# Altium schematic symbol library Capacitors.SchLib: 38 symbols
Pins are listed as number, name and electrical type; pins without a type are passive.

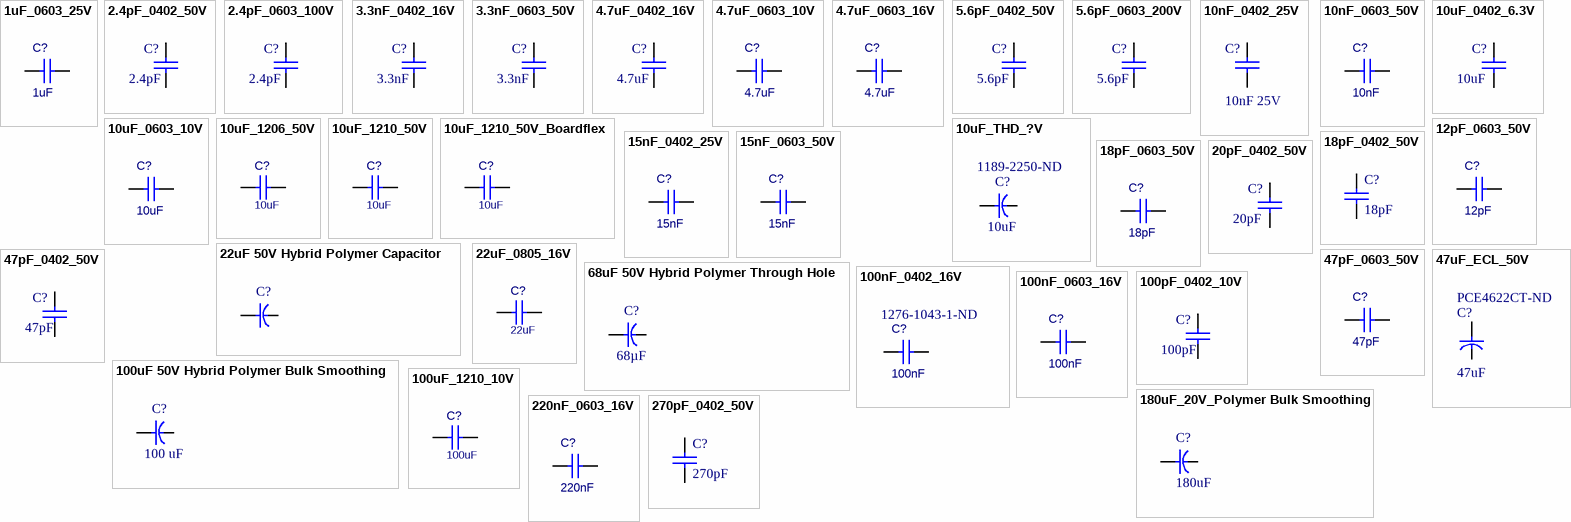
[diagram p0: symbols 1uF_0603_25V to 270pF_0402_50V]

## 1uF_0603_25V
designator C?, comment 1uF
CAP 1µF 25V ±10% X7R 0603; Manufacturer: Samsung; Manufacturer Part Number: CL10B105KA8NNNC; TZOA PN: 211-00001; Supplier 1: Digi-Key; Stock 1: 622934; Pricing 1: 1=0.1, 10=0.069, 100=0.0307, 500=0.0219, 1000=0.0172 (USD); Capacitance: 1 µF; Case Size/Dimension: 0603; Dielectric: X7R; Tolerance (%): ±10 %; Rated Voltage: 25 V; ComponentLink1URL: https://datasheet.ciiva.com/16449/cl10b105ka8nnnc-16449544.pdf; ComponentLink1Description: https://datasheet.ciiva.com/16449/cl10b105ka8nnnc-16449544.pdf; ComponentLink2URL: https://datasheet.ciiva.com/15195/getdatasheetpartid-359554-15195726.pdf; ComponentLink2Description: https://datasheet.ciiva.com/15195/getdatasheetpartid-359554-15195726.pdf; Supplier Part Number 1: 1276-1184-1-ND
footprint C1608[0603] small (3DModel=0805.ogl)
footprint C1608[0603] (3DModel=0805.ogl)
pins: 1, 2

## 2.4pF_0402_50V
designator C?, comment 2.4pF
Cap,2.4pF,50V,C0G/NP0,RF,0402; Supplier 1: Digi-Key; Supplier Part Number 1: 399-16068-1-ND
footprint C1005[0402] (Capacitor 1005(0402))
pins: 1, 2

## 2.4pF_0603_100V
designator C?, comment 2.4pF
Cap,2.4pF,100V,C0G/NP0,RF,0603; Supplier 1: Digi-Key; Supplier Part Number 1: 490-6093-1-ND
footprint C1608[0603] (3DModel=0805.ogl)
pins: 1, 2

## 3.3nF_0402_16V
designator C?, comment 3.3nF
Cap,3.3nF,16V,10%,X7R,0402; Supplier 1: Digi-Key; Supplier Part Number 1: 311-3803-1-ND
footprint C1005[0402] (Capacitor 1005(0402))
pins: 1, 2

## 3.3nF_0603_50V
designator C?, comment 3.3nF
Cap,3.3nF,50V,10%,X7R,0603; Supplier 1: Digi-Key; Supplier Part Number 1: 1276-1758-1-ND
footprint C1608[0603] (3DModel=0805.ogl)
pins: 1, 2

## 4.7uF_0402_16V
designator C?, comment 4.7uF
Cap,4.7uF,16V,20%,X5R,0402; Supplier 1: Digi-Key; Supplier Part Number 1: 1276-6836-1-ND
footprint C1005[0402] (Capacitor 1005(0402))
pins: 1, 2

## 4.7uF_0603_10V
designator C?, comment 4.7uF
CAP 4.7uF 10V ±10% X5R 0603; Manufacturer: Murata Electronics North America; Manufacturer Part Number: GRM188R61A475KE15D; Capacitance: 4.7µF; TZOA PN: 211-00012; Supplier 1: Digi-Key; RoHS: RoHS Compliant; Category: Capacitors; Stock 1: 4010; Pricing 1: 1=0.18, 10=0.127, 50=0.073, 100=0.0604, 250=0.0508, 500=0.04254, 1000=0.03491 (CAD); Packaging: Cut Tape (CT); Tolerance: ±10%; Voltage - Rated: 10V; Temperature Coefficient: X5R; Mounting Type: Surface Mount, MLCC; Operating Temperature: -55°C ~ 85°C; Applications: General Purpose; Ratings: -; Package / Case: 0603 (1608 Metric); Size / Dimension: 0.063" L x 0.031" W (1.60mm x 0.80mm); Height - Seated (Max): -; Thickness (Max): 0.039" (1.00mm); Lead Spacing: -; Features: Derating Recommended; Lead Style: -; ComponentLink1URL: http://www.murata.com/~/media/webrenewal/support/library/catalog/products/capacitor/mlcc/c02e.pdf; ComponentLink1Description: http://www.murata.com/~/media/webrenewal/support/library/catalog/products/capacitor/mlcc/c02e.pdf; Supplier Part Number 1: 490-10477-1-ND
footprint C1608[0603] small (3DModel=0805.ogl)
footprint C1608[0603] (3DModel=0805.ogl)
pins: 1, 2

## 4.7uF_0603_16V
designator C?, comment 4.7uF
Cap,SMD,4.7uF,0603,16V,X5R,10%; Manufacturer: Murata; Manufacturer Part Number: GRM188R61C475KAAJD; TZOA PN: 211-00004; Voltage Rating DC: 16 VDC; Brand: Murata Electronics; Capacitance - nF: 4700 nF; Type: Voltage and Temperature Derating Recommended Product; Unit Weight: 0.000222 oz; Supplier 1: Digi-Key; Stock 1: 136795; Pricing 1: 1=0.35, 10=0.238, 100=0.1351, 500=0.0953, 1000=0.0834 (USD); Product Category: Multilayer Ceramic Capacitors MLCC - SMD/SMT; RoHS: True; Capacitance: 4.7 uF; Dielectric: X5R; Tolerance: 10 %; Case Code - in: 0603; Case Code - mm: 1608; Height: 0.8 mm; Maximum Operating Temperature: + 85 C; Minimum Operating Temperature: - 55 C; Product: General Type MLCCs; Series: GRM; Packaging: Reel; Length: 1.6 mm; Package / Case: 0603 (1608 metric); Factory Pack Quantity: 4000; Termination Style: SMD/SMT; Width: 0.8 mm; ComponentLink1URL: https://datasheet.ciiva.com/14813/595grm188r61c475kaaj23-14813668.pdf; ComponentLink1Description: https://datasheet.ciiva.com/14813/595grm188r61c475kaaj23-14813668.pdf; Supplier Part Number 1: 490-10481-1-ND
footprint C1608[0603] small (3DModel=0805.ogl)
footprint C1608[0603] (3DModel=0805.ogl)
pins: 1, 2

## 5.6pF_0402_50V
designator C?, comment 5.6pF
Cap,5.6pF,50V,C0G/NP0,RF,0402; Supplier 1: Digi-Key; Supplier Part Number 1: 399-17315-1-ND
footprint C1005[0402] (Capacitor 1005(0402))
pins: 1, 2

## 5.6pF_0603_200V
designator C?, comment 5.6pF
Cap,5.6pF,200V,C0G/NP0,RF,0603; Supplier 1: Digi-Key; Supplier Part Number 1: 399-7944-1-ND
footprint C1608[0603] (3DModel=0805.ogl)
pins: 1, 2

## 10nF_0402_25V
designator C?, comment 10nF 25V
Cap,SMD,10nF,25V,10%,X7R,0402; Supplier 1: Digi-Key; Supplier Part Number 1: 1276-1057-1-ND
footprint C1005[0402] (Capacitor 1005(0402))
pins: 1, 2

## 10nF_0603_50V
designator C?, comment 10nF
Cap,SMD,10nF,0603,50V,X7R,10%; Manufacturer: Sams; Manufacturer Part Number: CL10B103KB8NNNC; TZOA PN: 211-00005; Tolerance Minus: -10%; Tolerance Plus: +10%; Temperature Coefficient: ±15%; Supplier 1: Digi-Key; Stock 1: 632289; Pricing 1: 1=0.1, 10=0.017, 100=0.0076, 500=0.0054, 1000=0.0043 (USD); Capacitance: 10 nF; Voltage: 50 V; Package/Case: 0603; Mounting Type: Surface Mount; Dielectric: X7R; Tolerance: ±10%; Dimensions: 1.6 x 0.8 x 0.8mm; Length: 1.6mm; Depth: 0.8mm; Height: 0.8mm; Series: CL; Minimum Operating Temperature: -55°C; Maximum Operating Temperature: +125°C; Supplier Part Number 1: 1276-1009-1-ND
footprint C1608[0603] small (3DModel=0805.ogl)
footprint C1608[0603] (3DModel=0805.ogl)
pins: 1, 2

## 10uF_0402_6.3V
designator C?, comment 10uF
Cap,10uF,6.3V,20%,X6S,0402; Supplier 1: Digi-Key; Supplier Part Number 1: 490-13233-1-ND
footprint C1005[0402] (Capacitor 1005(0402))
pins: 1, 2

## 10uF_0603_10V
designator C?, comment 10uF
CAP 10µF 10V ±10% X5R 0603; Manufacturer: Murata; Manufacturer Part Number: GRM188R61A106KE69D; TZOA PN: 211-00006; Supplier 1: Digi-Key; Stock 1: 0; Pricing 1: 1=0.21, 10=0.146, 100=0.0688, 500=0.0482, 1000=0.0399, 2500=0.0372, 5000=0.034 (USD); Supplier Part Number 1: 490-10474-1-ND
footprint C1608[0603] small (3DModel=0805.ogl)
footprint C1608[0603] (3DModel=0805.ogl)
pins: 1, 2

## 10uF_1206_50V
designator C?, comment 10uF
Cap,SMD,10uF,1206,50V,X7R,10%; Manufacturer: Samsung Electro-Mechanics; Manufacturer Part Number: CL31B106KBHNNNE; TZOA PN: 211-00007; Supplier 1: Digi-Key; Supplier Part Number 1: 1276-6767-1-ND
footprint C3216[1206]
pins: 1, 2

## 10uF_1210_50V
designator C?, comment 10uF
Cap,SMD,10uF,1210,50V,X7R,10%; Manufacturer: Samsung; Manufacturer Part Number: CL32B106KBJNNWE; TZOA PN: 211-; Supplier 1: Digi-Key; Stock 1: 515330; Pricing 1: 1=0.66, 10=0.469, 100=0.3089, 500=0.2288 (USD); Capacitance: 10 uF; Case Size/Dimension: 1210; Dielectric: X7R; Rated Voltage: 50 V; Tolerance (%): 10 %; ComponentLink1URL: https://datasheet.ciiva.com/25721/cl32b106kbjnnwe-25721651.pdf; ComponentLink1Description: https://datasheet.ciiva.com/25721/cl32b106kbjnnwe-25721651.pdf; Supplier Part Number 1: 1276-3388-1-ND
footprint C3225[1210]_Tall
pins: 1, 2

## 10uF_1210_50V_Boardflex
designator C?, comment 10uF
Cap,SMD,10uF,1210,50V,X7R,10%, Boardflex; Manufacturer: Murata; Manufacturer Part Number: GRJ32ER71H106KE11L; Capacitance: 10µF; TZOA PN: 211-00007; Supplier 1: Digikey; Stock 1: 11340; Pricing 1: 1=0.9, 10=0.687, 100=0.4913, 500=0.3804 (USD); Category: Capacitors; Family: Ceramic Capacitors; Series: GRJ; Packaging: Tape &amp; Reel (TR); Tolerance: ±10%; Voltage - Rated: 50V; Temperature Coefficient: X7R; Mounting Type: Surface Mount, MLCC; Operating Temperature: -55°C ~ 125°C; Applications: Boardflex Sensitive; Ratings: -; Package / Case: 1210 (3225 Metric); Size / Dimension: 0.126" L x 0.098" W (3.20mm x 2.50mm); Height - Seated (Max): -; Thickness (Max): 0.110" (2.80mm); Lead Spacing: -; Features: Soft Termination; Lead Style: -; Supplier Part Number 1: 490-10961-1-ND
footprint C3225[1210]_Tall
pins: 1, 2

## 10uF_THD_?V
designator C?, comment 10uF  Supplier Part Number 1: 1189-2250-ND
Cap,10uF,?V,ECL,THD; Supplier 1: Digi-Key
footprint THD ML (0.45mm ID ML-Series)
pins: 1, 2

## 12pF_0603_50V
designator C?, comment 12pF
CAP 12pF 50V ±5% C0G/NP0 0603; Manufacturer: Samsung Electro-Mechanics America, Inc.; Manufacturer Part Number: CL10C120JB8NNNC; Temperature Coefficient: C0G, NP0; TZOA PN: 211-00003; Supplier 1: Digi-Key; RoHS: RoHS Compliant; Category: Capacitors; Stock 1: 17788; Pricing 1: 1=0.18, 10=0.131, 25=0.098, 50=0.0754, 100=0.0621, 500=0.04382, 1000=0.03596 (CAD); Packaging: Cut Tape (CT); Tolerance: ±5%; Voltage - Rated: 50V; Mounting Type: Surface Mount, MLCC; Operating Temperature: -55°C ~ 125°C; Applications: General Purpose; Ratings: -; Package / Case: 0603 (1608 Metric); Size / Dimension: 0.063" L x 0.031" W (1.60mm x 0.80mm); Height - Seated (Max): -; Thickness (Max): 0.035" (0.90mm); Lead Spacing: -; Features: -; Lead Style: -; ComponentLink1URL: http://www.samsungsem.com/kr/support/product-search/mlcc/CL10C180GB8NNNC.jsp; ComponentLink1Description: http://www.samsungsem.com/kr/support/product-search/mlcc/CL10C180GB8NNNC.jsp; Supplier Part Number 1: 1276-1254-1-ND; Capacitance: 12pF
footprint C1608[0603] (3DModel=0805.ogl)
footprint C1608[0603] small (3DModel=0805.ogl)
pins: 1, 2

## 15nF_0402_25V
designator C?, comment 15nF
Cap,SMD,15nF,0402,25V,X7R,10%; Manufacturer: Samsung Electro-Mechanics America, Inc.; Manufacturer Part Number: CL10B153KB8NNNC; Voltage - Rated: 50V; ID: 1634634; Capacitance: 10000pF; RoHS: RoHS Compliant; Category: Capacitors; Stock: 420353; Pricing: 1=0.14, 10=0.024, 25=0.0168, 50=0.013, 100=0.011, 500=0.00764, 1000=0.00597 (CAD); Packaging: Cut Tape (CT); Tolerance: ±10%; Temperature Coefficient: X7R; Mounting Type: Surface Mount, MLCC; Operating Temperature: -55°C ~ 125°C; Applications: General Purpose; Ratings: -; Package / Case: 0603 (1608 Metric); Size / Dimension: 0.063" L x 0.031" W (1.60mm x 0.80mm); Height - Seated (Max): -; Thickness (Max): 0.035" (0.90mm); Lead Spacing: -; Features: -; Lead Style: -; ComponentLink1URL: http://www.samsungsem.com/kr/support/product-search/mlcc/CL10B103KB8NNNC.jsp; ComponentLink1Description: http://www.samsungsem.com/kr/support/product-search/mlcc/CL10B103KB8NNNC.jsp; Package Quantity: 4000; ComponentLink2URL: https://www.arrow.com/en/products/cl10b103kb8nnnc/samsung-electro-mechanics/; ComponentLink2Description: https://www.arrow.com/en/products/cl10b103kb8nnnc/samsung-electro-mechanics/; Supplier 1: Digi-Key; Supplier Part Number 1: 1276-1523-1-ND
footprint C1005[0402] (Capacitor 1005(0402))
pins: 1, 2

## 15nF_0603_50V
designator C?, comment 15nF
Cap,SMD,15nF,0603,50V,X7R,10%; Manufacturer: Samsung Electro-Mechanics America, Inc.; Manufacturer Part Number: CL10B153KB8NNNC; ID: 1634634; Capacitance: 10000pF; Supplier 1: Digi-Key; Supplier Part Number 1: 1276-1277-1-ND; RoHS: RoHS Compliant; Category: Capacitors; Stock: 420353; Pricing: 1=0.14, 10=0.024, 25=0.0168, 50=0.013, 100=0.011, 500=0.00764, 1000=0.00597 (CAD); Packaging: Cut Tape (CT); Tolerance: ±10%; Voltage - Rated: 50V; Temperature Coefficient: X7R; Mounting Type: Surface Mount, MLCC; Operating Temperature: -55°C ~ 125°C; Applications: General Purpose; Ratings: -; Package / Case: 0603 (1608 Metric); Size / Dimension: 0.063" L x 0.031" W (1.60mm x 0.80mm); Height - Seated (Max): -; Thickness (Max): 0.035" (0.90mm); Lead Spacing: -; Features: -; Lead Style: -; ComponentLink1URL: http://www.samsungsem.com/kr/support/product-search/mlcc/CL10B103KB8NNNC.jsp; ComponentLink1Description: http://www.samsungsem.com/kr/support/product-search/mlcc/CL10B103KB8NNNC.jsp; Supplier 2: Arrow; Supplier Part Number 2: Kjzk4c3iaGHKgu91OSCceftLzGdEy-eHvzd4Lw8V1m4ZVywxIBNyoAQstvnyfZZ0; Package Quantity: 4000; ComponentLink2URL: https://www.arrow.com/en/products/cl10b103kb8nnnc/samsung-electro-mechanics/; ComponentLink2Description: https://www.arrow.com/en/products/cl10b103kb8nnnc/samsung-electro-mechanics/
footprint C1608[0603] (3DModel=0805.ogl)
footprint C1608[0603] small (3DModel=0805.ogl)
pins: 1, 2

## 18pF_0402_50V
designator C?, comment 18pF
Cap,18pF,50V,5%,C0G/NP0,0402; Supplier 1: Digi-Key; Supplier Part Number 1: 311-1415-1-ND
footprint C1005[0402] (Capacitor 1005(0402))
pins: 1, 2

## 18pF_0603_50V
designator C?, comment 18pF
CAP CER 18pF 50V ±5% C0G/NP0 0603; Manufacturer: Samsung; Manufacturer Part Number: CL10C180JB8NNNC; Dielectric: C0G; TZOA PN: 211-00009; Supplier 1: Digikey; Stock 1: 322612; Pricing 1: 1=0.1, 10=0.03, 100=0.0135, 500=0.0096, 1000=0.0076 (USD); Capacitance: 18 pF; Case Size/Dimension: 0603; Tolerance (%): ±5 %; Rated Voltage: 50 V; ComponentLink1URL: https://datasheet.ciiva.com/26838/getdatasheetpartid-660083-26838496.pdf; ComponentLink1Description: https://datasheet.ciiva.com/26838/getdatasheetpartid-660083-26838496.pdf; ComponentLink2URL: https://datasheet.ciiva.com/25709/cl10c180jb8nnnc-25709670.pdf; ComponentLink2Description: https://datasheet.ciiva.com/25709/cl10c180jb8nnnc-25709670.pdf; ComponentLink3URL: https://datasheet.ciiva.com/26310/mlcc-catalogdownload2013-eng-26310310.pdf; ComponentLink3Description: https://datasheet.ciiva.com/26310/mlcc-catalogdownload2013-eng-26310310.pdf; ComponentLink4URL: https://datasheet.ciiva.com/29198/457219-da-01-en-vs-kondensator-0603-29198763.pdf; ComponentLink4Description: https://datasheet.ciiva.com/29198/457219-da-01-en-vs-kondensator-0603-29198763.pdf; Supplier Part Number 1: 1276-1089-1-ND
footprint C1608[0603] (3DModel=0805.ogl)
footprint C1608[0603] small (3DModel=0805.ogl)
pins: 1, 2

## 20pF_0402_50V
designator C?, comment 20pF
Cap,20pF,50V,5%,C0G/NP0,0402; Supplier 1: Digi-Key; Supplier Part Number 1: 1276-2119-1-ND
footprint C1005[0402] (Capacitor 1005(0402))
pins: 1, 2

## 22uF 50V Hybrid Polymer Capacitor
designator C?  (value not drawn)
Manufacturer: United Chemi-Con; Manufacturer Part Number: HHXB500ARA220MF61G; Featured Product: Hybrid Polymer Aluminum Electrolytic Capacitors HXB Series; Capacitance: 22µF; Tolerance: ±20%; Voltage Rating: 50V; ESR (Equivalent Series Resistance): 80 mOhm; Lifetime @ Temp.: 5000 Hrs @ 105°C; Polarization: Polar; Ripple Current: 1.1A; Surface Mount Land Size: 0.260" L x 0.260" W (6.60mm x 6.60mm); Online Catalog: HXB Series; Other Names: 565-4188-1; Supplier 1: Digikey; Stock 1: 1047; Pricing 1: 1=1.32, 10=1.043, 100=0.7825, 500=0.5912 (USD); Standard Package: 1; Category: Capacitors; Family: Aluminum - Polymer Capacitors; Series: Automotive, AEC-Q200, HXB, Hybrid; Packaging: Cut Tape (CT); Operating Temperature: -55°C ~ 105°C; Applications: General Purpose; Impedance: -; Lead Spacing: -; Size / Dimension: 0.248" Dia (6.30mm); Height - Seated (Max): 0.240" (6.10mm); Mounting Type: Surface Mount; Package / Case: Radial, Can - SMD; ComponentLink1URL: http://www.mouser.com/ds/2/420/al-hxb-bulletin831e-e-140325-345764.pdf; ComponentLink1Description: http://www.mouser.com/ds/2/420/al-hxb-bulletin831e-e-140325-345764.pdf; ComponentLink2URL: //media.digikey.com/pdf/Data%20Sheets/United%20Chemi-Con%20PDFs/HXB_Series_Bltn.pdf; ComponentLink2Description: //media.digikey.com/pdf/Data%20Sheets/United%20Chemi-Con%20PDFs/HXB_Series_Bltn.pdf; Supplier Part Number 1: 565-4188-6-ND
footprint Radial Can F61 6.6x6.6
pins: 1 POS, 2 NEG

## 22uF_0805_16V
designator C?, comment 22uF
CAP 22µF 16V ±20% X5R 0805; Manufacturer: Samsung Electro-Mechanics; Manufacturer Part Number: CL21A226MOCLRNC; TZOA PN: 211-00008; Supplier 1: Digi-Key; Supplier Part Number 1: 1276-6780-1-ND; Stock 1: 250082; Pricing 1: 1=0.26, 10=0.176, 100=0.0996, 500=0.0703, 1000=0.0615 (USD); Category: Capacitors; Family: Ceramic Capacitors; Series: CL; Packaging: Tape &amp; Reel (TR); Capacitance: 22µF; Tolerance: ±20%; Voltage - Rated: 16V; Temperature Coefficient: X5R; Mounting Type: Surface Mount, MLCC; Operating Temperature: -55°C ~ 85°C; Applications: General Purpose; Ratings: -; Package / Case: 0805 (2012 Metric); Size / Dimension: 0.079" L x 0.049" W (2.00mm x 1.25mm); Height - Seated (Max): -; Thickness (Max): 0.037" (0.95mm); Lead Spacing: -; Features: Low Profile; Lead Style: -
footprint C2012[0805] (3DModel=0805.ogl)
pins: 1, 2

## 47pF_0402_50V
designator C?, comment 47pF
Cap,47pF,50V,5%,C0G/NP0; Supplier 1: Digi-Key; Supplier Part Number 1: 311-1021-1-ND
footprint C1005[0402] (Capacitor 1005(0402))
pins: 1, 2

## 47pF_0603_50V
designator C?, comment 47pF
Cap,SMD, 47pF,0603,50V,C0G,5%; Manufacturer: Samsung; Manufacturer Part Number: CL10C470JB8NNNC; TZOA PN: 211-xxxxx; Supplier 1: Digi-Key; Stock 1: 457525; Pricing 1: 1=0.1, 10=0.028, 100=0.0123, 500=0.0088, 1000=0.0069 (USD); Capacitance: 47 pF; Case Size/Dimension: 0603; Dielectric: C0G; Tolerance (%): ±5 %; Rated Voltage: 50 V; ComponentLink1URL: https://datasheet.ciiva.com/26310/mlcc-catalogdownload2013-eng-26310294.pdf; ComponentLink1Description: https://datasheet.ciiva.com/26310/mlcc-catalogdownload2013-eng-26310294.pdf; ComponentLink2URL: https://datasheet.ciiva.com/25803/cl10c470jb8nnnc-25803543.pdf; ComponentLink2Description: https://datasheet.ciiva.com/25803/cl10c470jb8nnnc-25803543.pdf; ComponentLink3URL: https://datasheet.ciiva.com/26838/getdatasheetpartid-359564-26838540.pdf; ComponentLink3Description: https://datasheet.ciiva.com/26838/getdatasheetpartid-359564-26838540.pdf; ComponentLink4URL: https://datasheet.ciiva.com/29198/456890-da-01-en-vs-kondensator-0603-29198885.pdf; ComponentLink4Description: https://datasheet.ciiva.com/29198/456890-da-01-en-vs-kondensator-0603-29198885.pdf; Supplier Part Number 1: 1276-1037-1-ND
footprint C1608[0603] (3DModel=0805.ogl)
footprint C1608[0603] small (3DModel=0805.ogl)
pins: 1, 2

## 47uF_ECL_50V
designator C?, comment 47uF  Supplier Part Number 1: PCE4622CT-ND
EEE-1HA470XAP; Supplier 1: Digi-Key
footprint RADIAL CAN SIZE H70
pins: 1, 2

## 68uF 50V Hybrid Polymer Through Hole
designator C?  Capacitance: 68µF  (hidden comment: *)
Manufacturer: Rubycon; Manufacturer Part Number: 50PZE68M8X9; Tolerance: ±20%; Voltage Rating: 50V; ESR (Equivalent Series Resistance): 30 mOhm @ 100kHz; Lifetime @ Temp.: 10000 Hrs @ 105°C; Polarization: Polar; Ripple Current: 90mA @ 120Hz; Online Catalog: PZE Series; Other Names: 50PZE68M10008X9  50PZE68M10008X9-ND; Supplier 1: Digikey; Stock 1: 965; Pricing 1: 1=1.51, 10=1.191, 25=1.092, 50=1.0324, 100=0.8935, 250=0.7942, 500=0.6751, 1000=0.5957, 5000=0.5361 (USD); Standard Package: 1,000; Category: Capacitors; Family: Aluminum - Polymer Capacitors; Series: PZE, Hybrid; Packaging: Bulk; Operating Temperature: -55°C ~ 105°C; Applications: General Purpose; Impedance: -; Lead Spacing: 0.138" (3.50mm); Size / Dimension: 0.315" Dia (8.00mm); Height - Seated (Max): 0.433" (11.00mm); Surface Mount Land Size: -; Mounting Type: Through Hole; Package / Case: Radial, Can; ComponentLink1URL: http://www.rubycon.co.jp/en/catalog/e_pdfs/pzcap/e_PZE.pdf; ComponentLink1Description: http://www.rubycon.co.jp/en/catalog/e_pdfs/pzcap/e_PZE.pdf; Supplier Part Number 1: 50PZE68M8X9-ND
footprint PZE
pins: 1, 2

## 100nF_0402_16V
designator C?, comment 100nF  Supplier Part Number 1: 1276-1043-1-ND
CAP 0.1µF 16V ±10% X7R 0402; Manufacturer: Murata Electronics North America; Manufacturer Part Number: GCM188R71C104KA37D; ID: 2203580; TZOA PN: 211-00002; RoHS: RoHS Compliant; Category: Capacitors; Packaging: Cut Tape (CT); Tolerance: ±10%; Voltage - Rated: 16V; Temperature Coefficient: X7R; Mounting Type: Surface Mount, MLCC; Operating Temperature: -55°C ~ 125°C; Applications: Automotive; Ratings: AEC-Q200; Package / Case: 0603 (1608 Metric); Size / Dimension: 0.063" L x 0.031" W (1.60mm x 0.80mm); Height - Seated (Max): -; Thickness (Max): 0.035" (0.90mm); Lead Spacing: -; Features: -; Lead Style: -; ComponentLink1URL: http://www.murata.com/~/media/webrenewal/support/library/catalog/products/capacitor/mlcc/c03e.ashx; ComponentLink1Description: http://www.murata.com/~/media/webrenewal/support/library/catalog/products/capacitor/mlcc/c03e.ashx; Package Quantity: 4000; ComponentLink2URL: https://www.arrow.com/en/products/gcm188r71c104ka37d/murata-manufacturing/; ComponentLink2Description: https://www.arrow.com/en/products/gcm188r71c104ka37d/murata-manufacturing/; Capacitance: 100nF; Supplier 1: Digi-Key
footprint C1005[0402] (Capacitor 1005(0402))
pins: 1, 2

## 100nF_0603_16V
designator C?, comment 100nF
CAP 0.1µF 16V ±10% X7R 0603; Manufacturer: Murata Electronics North America; Manufacturer Part Number: GCM188R71C104KA37D; ID: 2203580; TZOA PN: 211-00002; Supplier 1: Digi-Key; RoHS: RoHS Compliant; Category: Capacitors; Stock 1: 39308; Pricing 1: 1=0.14, 10=0.052, 50=0.0284, 100=0.0241, 250=0.01968, 500=0.01684, 1000=0.01312 (CAD); Packaging: Cut Tape (CT); Tolerance: ±10%; Voltage - Rated: 16V; Temperature Coefficient: X7R; Mounting Type: Surface Mount, MLCC; Operating Temperature: -55°C ~ 125°C; Applications: Automotive; Ratings: AEC-Q200; Package / Case: 0603 (1608 Metric); Size / Dimension: 0.063" L x 0.031" W (1.60mm x 0.80mm); Height - Seated (Max): -; Thickness (Max): 0.035" (0.90mm); Lead Spacing: -; Features: -; Lead Style: -; ComponentLink1URL: http://www.murata.com/~/media/webrenewal/support/library/catalog/products/capacitor/mlcc/c03e.ashx; ComponentLink1Description: http://www.murata.com/~/media/webrenewal/support/library/catalog/products/capacitor/mlcc/c03e.ashx; Supplier 2: Arrow; Stock 2: 2052000; Pricing 2: 16000000=0.0076, 128000000=0.0067 (USD); Package Quantity: 4000; ComponentLink2URL: https://www.arrow.com/en/products/gcm188r71c104ka37d/murata-manufacturing/; ComponentLink2Description: https://www.arrow.com/en/products/gcm188r71c104ka37d/murata-manufacturing/; Supplier Part Number 1: 490-4774-1-ND; Supplier Part Number 2: oUsDppRPnR_xp85jY4QXp563pihAbtOBn9HlK9MW6OUj_bvwNKbpFri4ovQvvkAO; Capacitance: 100nF
footprint C1608[0603] (3DModel=0805.ogl)
footprint C1608[0603] small (3DModel=0805.ogl)
pins: 1, 2

## 100pF_0402_10V
designator C?, comment 100pF
Cap,100pF,10V,5%,C0G/NP0,0402; Supplier 1: Digi-Key; Supplier Part Number 1: 311-1069-1-ND
footprint C1005[0402] (Capacitor 1005(0402))
pins: 1, 2

## 100uF 50V Hybrid Polymer Bulk Smoothing
designator C?  Capacitance: 100 uF  (hidden comment: *)
Manufacturer: Panasonic; Manufacturer Part Number: EEH-ZA1H101P; Voltage Rating DC: 50 V; Tolerance: 20 %; ESR: 28 mOhms; Ripple Current: 2 A; Load Life: 10000 Hour; Case Length: 10.2 mm; Case Height: 10.5 mm; Case Diameter: 10 mm; Supplier 1: Digikey; Stock 1: 9616; Pricing 1: 1=3.3, 10=2.734, 25=2.6136, 50=2.5332, 100=2.4125, 250=2.2517 (USD); Product Category: Aluminum Organic Polymer Capacitors; RoHS: Details; Termination Style: SMD/SMT; Minimum Operating Temperature: - 55 C; Maximum Operating Temperature: + 105 C; Brand: Panasonic; Height: 10.5 mm; Packaging: Reel; Product: Aluminum Electrolytic Capacitors; Series: ZA; Factory Pack Quantity: 500; ComponentLink1URL: https://datasheet.ciiva.com/48541/eehza-eng-tds-48541031.pdf; ComponentLink1Description: https://datasheet.ciiva.com/48541/eehza-eng-tds-48541031.pdf; ComponentLink2URL: https://datasheet.ciiva.com/18524/aba0000ce136-18524922.pdf; ComponentLink2Description: https://datasheet.ciiva.com/18524/aba0000ce136-18524922.pdf; ComponentLink3URL: https://datasheet.ciiva.com/6134/1536543-6134363.pdf; ComponentLink3Description: https://datasheet.ciiva.com/6134/1536543-6134363.pdf; ComponentLink4URL: https://datasheet.ciiva.com/7794/1536543-7794235.pdf; ComponentLink4Description: https://datasheet.ciiva.com/7794/1536543-7794235.pdf; ComponentLink5URL: https://datasheet.ciiva.com/18524/aba0000ce136-18524923.pdf; ComponentLink5Description: https://datasheet.ciiva.com/18524/aba0000ce136-18524923.pdf; ComponentLink6URL: https://datasheet.ciiva.com/30178/86aba0000ce136-30178699.pdf; ComponentLink6Description: https://datasheet.ciiva.com/30178/86aba0000ce136-30178699.pdf; ComponentLink7URL: https://datasheet.ciiva.com/14595/70256916-14595260.pdf; ComponentLink7Description: https://datasheet.ciiva.com/14595/70256916-14595260.pdf; ComponentLink8URL: https://datasheet.ciiva.com/18524/aba0000ce136-18524924.pdf; ComponentLink8Description: https://datasheet.ciiva.com/18524/aba0000ce136-18524924.pdf; ComponentLink9URL: https://datasheet.ciiva.com/28691/1536543-28691421.pdf; ComponentLink9Description: https://datasheet.ciiva.com/28691/1536543-28691421.pdf; ComponentLink10URL: https://datasheet.ciiva.com/22730/1536543-22730558.pdf; ComponentLink10Description: https://datasheet.ciiva.com/22730/1536543-22730558.pdf; ComponentLink11URL: https://datasheet.ciiva.com/10327/aba0000ce136-10327231.pdf; ComponentLink11Description: https://datasheet.ciiva.com/10327/aba0000ce136-10327231.pdf; Supplier Part Number 1: P15442CT-ND
footprint Radial Can Size G
pins: 1, 2

## 100uF_1210_10V
designator C?, comment 100uF
Cap,SMD,100uF,1210,10V,X5R,20%; Manufacturer: Murata; Manufacturer Part Number: GRM32ER61A107ME20L; TZOA PN: 211-; Voltage Rating DC: 10 VDC; Brand: Murata Electronics; Type: Voltage and Temperature Derating Recommended Product; Unit Weight: 0.003880 oz; Supplier 1: Digi-Key; Stock 1: 102719; Pricing 1: 1=1.08, 10=0.822, 100=0.5882, 500=0.4554 (USD); Product Category: Multilayer Ceramic Capacitors MLCC - SMD/SMT; RoHS: True; Capacitance: 100 uF; Dielectric: X5R; Tolerance: 20 %; Case Code - in: 1210; Case Code - mm: 3225; Height: 2.5 mm; Maximum Operating Temperature: + 85 C; Minimum Operating Temperature: - 55 C; Product: General Type MLCCs; Series: GRM; Packaging: Cut Tape (CT); Length: 3.2 mm; Package / Case: 1210 (3225 metric); Factory Pack Quantity: 1000; Termination Style: SMD/SMT; Width: 2.5 mm; ComponentLink1URL: http://components.arrow.com/part/dataview/0323_06932945; ComponentLink1Description: http://components.arrow.com/part/dataview/0323_06932945; ComponentLink2URL: http://www.mouser.com/ds/2/281/c02e-2905.pdf; ComponentLink2Description: http://www.mouser.com/ds/2/281/c02e-2905.pdf; ComponentLink3URL: http://www.farnell.com/datasheets/2079200.pdf; ComponentLink3Description: http://www.farnell.com/datasheets/2079200.pdf; ComponentLink4URL: http://psearch.en.murata.com/capacitor/product/GRM32ER61A107ME20%23.pdf; ComponentLink4Description: http://psearch.en.murata.com/capacitor/product/GRM32ER61A107ME20%23.pdf; Supplier Part Number 1: 490-9969-1-ND
footprint C3225[1210]_Tall
pins: 1, 2

## 180uF_20V_Polymer Bulk Smoothing
designator C?, comment 180uF
CAP 180µF 20V ±20%; Supplier 1: Digi-Key; Supplier Part Number 1: 565-4296-1-ND
footprint RADIAL CAN SIZE H70
pins: 1, 2

## 220nF_0603_16V
designator C?, comment 220nF
CAP CER 0.22µF 16V ±10% X7R 0603; Manufacturer: Samsung; Manufacturer Part Number: CL10B224KO8NNNC; TZOA PN: 211-00010; Supplier 1: Digi-Key; Stock 1: 266078; Pricing 1: 1=0.1, 10=0.035, 100=0.0158, 500=0.0113, 1000=0.0089 (USD); Capacitance: 220 nF; Case Size/Dimension: 0603; Dielectric: X7R; Tolerance (%): ±10 %; Rated Voltage: 16 V; ComponentLink1URL: https://datasheet.ciiva.com/16426/cl05b104kq5nnnc-16426261.pdf; ComponentLink1Description: https://datasheet.ciiva.com/16426/cl05b104kq5nnnc-16426261.pdf; ComponentLink2URL: https://datasheet.ciiva.com/15195/getdatasheetpartid-359555-15195740.pdf; ComponentLink2Description: https://datasheet.ciiva.com/15195/getdatasheetpartid-359555-15195740.pdf; ComponentLink3URL: https://datasheet.ciiva.com/26310/mlcc-catalogdownload2013-eng-26310319.pdf; ComponentLink3Description: https://datasheet.ciiva.com/26310/mlcc-catalogdownload2013-eng-26310319.pdf; ComponentLink4URL: https://datasheet.ciiva.com/29198/456449-da-01-en-vs-kondensator-0603-29198983.pdf; ComponentLink4Description: https://datasheet.ciiva.com/29198/456449-da-01-en-vs-kondensator-0603-29198983.pdf; Supplier Part Number 1: 1276-1112-1-ND
footprint C1608[0603] (3DModel=0805.ogl)
footprint C1608[0603] small (3DModel=0805.ogl)
pins: 1, 2

## 270pF_0402_50V
designator C?, comment 270pF
Cap,270pF,50V,10%,X7R,0402; Supplier 1: Digi-Key; Supplier Part Number 1: 1276-1236-1-ND
footprint C1005[0402] (Capacitor 1005(0402))
pins: 1, 2